# EAGLE library part WIZ850IO (library plc-bridge)
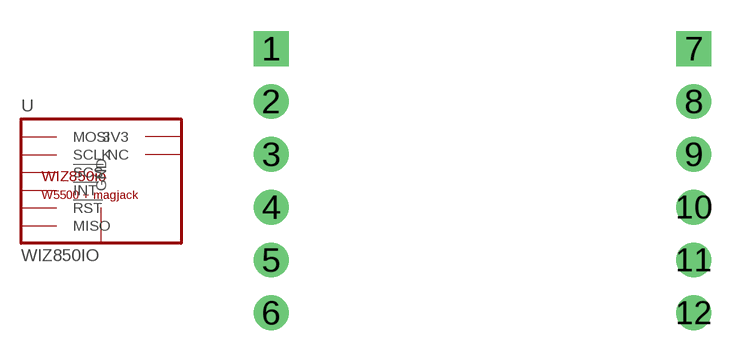
[diagram p3: symbol with the pads of WIZ850IO; footprint WIZ850IO]

Designator prefix U

## WIZ850IO  [WIZ850IO]
1  GND
2  GND
3  MOSI
4  SCLK
5  !SCS
6  !INT
7  GND
8  3V3
9  3V3
10  NC
11  !RST
12  MISO

## Footprint WIZ850IO (pad centres in mm)
WIZnet WIZ850io plug-in Ethernet module: W5500 + magnetics + RJ45, two 1x6 headers 20.32 mm apart
drill 1.12 pad 1.68 square: 1 -9.86,4.75; 7 10.46,4.75
drill 1.12 pad 1.68: 2 -9.86,2.21; 3 -9.86,-0.33; 4 -9.86,-2.87; 5 -9.86,-5.41; 6 -9.86,-7.95; 8 10.46,2.21; 9 10.46,-0.33; 10 10.46,-2.87; 11 10.46,-5.41; 12 10.46,-7.95